# Altium footprint library BGA_Sq_100P.PcbLib: 114 footprints (part 26 of 31)
Each footprint in its own frame and in the unit in brackets; x right, y up, seen from the top. Pads: shape width x height; smd on the part's side, far side on the other; paste and mask are expansions set on the pad; w line width, h text height; cw(c..) or ccw(c..) is an arc to the next point about the centre after c.
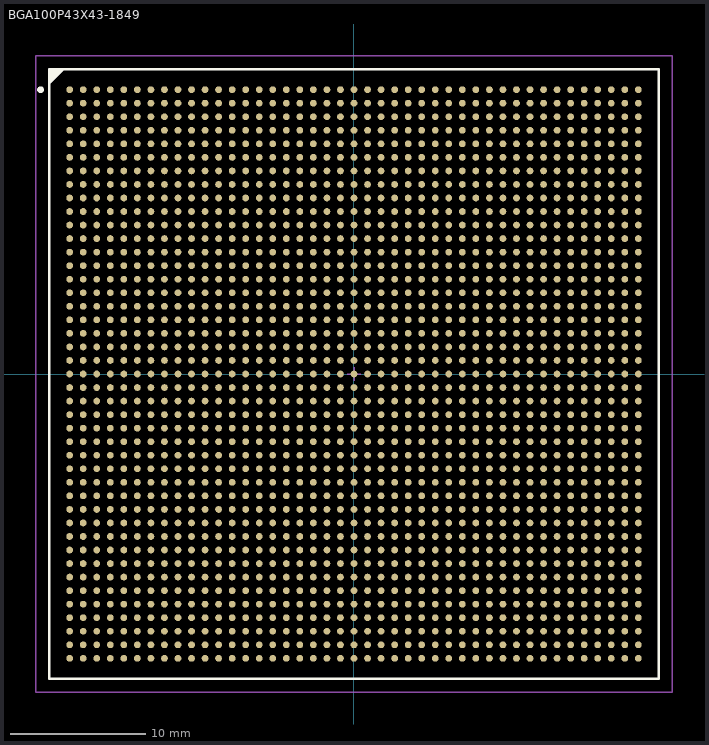
[diagram p25: the footprint, top view; thin cyan lines are the x and y axes]

## BGA100P43X43-1849 [mm] "BGA, 1849-Leads, Body 45x45mm, Pitch 1mm"
height 3.5
pads (1849):
  round 0.5 smd: A1(-21,21) A2(-20,21) A3(-19,21) A4(-18,21) A5(-17,21) A6(-16,21) A7(-15,21) A8(-14,21) A9(-13,21) A10(-12,21) A11(-11,21) A12(-10,21) A13(-9,21) A14(-8,21) A15(-7,21) A16(-6,21) A17(-5,21) A18(-4,21) A19(-3,21) A20(-2,21) A21(-1,21) A22(0,21) A23(1,21) A24(2,21) A25(3,21) A26(4,21) A27(5,21) A28(6,21) A29(7,21) A30(8,21) A31(9,21) A32(10,21) A33(11,21) A34(12,21) A35(13,21) A36(14,21) A37(15,21) A38(16,21) A39(17,21) A40(18,21) A41(19,21) A42(20,21) A43(21,21) AA1(-21,1) AA2(-20,1) AA3(-19,1) AA4(-18,1) AA5(-17,1) AA6(-16,1) AA7(-15,1) AA8(-14,1) AA9(-13,1) AA10(-12,1) AA11(-11,1) AA12(-10,1) AA13(-9,1) AA14(-8,1) AA15(-7,1) AA16(-6,1) AA17(-5,1) AA18(-4,1) AA19(-3,1) AA20(-2,1) AA21(-1,1) AA22(0,1) AA23(1,1) AA24(2,1) AA25(3,1) AA26(4,1) AA27(5,1) AA28(6,1) AA29(7,1) AA30(8,1) AA31(9,1) AA32(10,1) AA33(11,1) AA34(12,1) AA35(13,1) AA36(14,1) AA37(15,1) AA38(16,1) AA39(17,1) AA40(18,1) AA41(19,1) AA42(20,1) AA43(21,1) AB1(-21,0) AB2(-20,0) AB3(-19,0) AB4(-18,0) AB5(-17,0) AB6(-16,0) AB7(-15,0) AB8(-14,0) AB9(-13,0) AB10(-12,0) AB11(-11,0) AB12(-10,0) AB13(-9,0) AB14(-8,0) AB15(-7,0) AB16(-6,0) AB17(-5,0) AB18(-4,0) AB19(-3,0) AB20(-2,0) AB21(-1,0) AB22(0,0) AB23(1,0) AB24(2,0) AB25(3,0) AB26(4,0) AB27(5,0) AB28(6,0) AB29(7,0) AB30(8,0) AB31(9,0) AB32(10,0) AB33(11,0) AB34(12,0) AB35(13,0) AB36(14,0) AB37(15,0) AB38(16,0) AB39(17,0) AB40(18,0) AB41(19,0) AB42(20,0) AB43(21,0) AC1(-21,-1) AC2(-20,-1) AC3(-19,-1) AC4(-18,-1) AC5(-17,-1) AC6(-16,-1) AC7(-15,-1) AC8(-14,-1) AC9(-13,-1) AC10(-12,-1) AC11(-11,-1) AC12(-10,-1) AC13(-9,-1) AC14(-8,-1) AC15(-7,-1) AC16(-6,-1) AC17(-5,-1) AC18(-4,-1) AC19(-3,-1) AC20(-2,-1) AC21(-1,-1) AC22(0,-1) AC23(1,-1) AC24(2,-1) AC25(3,-1) AC26(4,-1) AC27(5,-1) AC28(6,-1) AC29(7,-1) AC30(8,-1) AC31(9,-1) AC32(10,-1) AC33(11,-1) AC34(12,-1) AC35(13,-1) AC36(14,-1) AC37(15,-1) AC38(16,-1) AC39(17,-1) AC40(18,-1) AC41(19,-1) AC42(20,-1) AC43(21,-1) AD1(-21,-2) AD2(-20,-2) AD3(-19,-2) AD4(-18,-2) AD5(-17,-2) AD6(-16,-2) AD7(-15,-2) AD8(-14,-2) AD9(-13,-2) AD10(-12,-2) AD11(-11,-2) AD12(-10,-2) AD13(-9,-2) AD14(-8,-2) AD15(-7,-2) AD16(-6,-2) AD17(-5,-2) AD18(-4,-2) AD19(-3,-2) AD20(-2,-2) AD21(-1,-2) AD22(0,-2) AD23(1,-2) AD24(2,-2) AD25(3,-2) AD26(4,-2) AD27(5,-2) AD28(6,-2) AD29(7,-2) AD30(8,-2) AD31(9,-2) AD32(10,-2) AD33(11,-2) AD34(12,-2) AD35(13,-2) AD36(14,-2) AD37(15,-2) AD38(16,-2) AD39(17,-2) AD40(18,-2) AD41(19,-2) AD42(20,-2) AD43(21,-2) AE1(-21,-3) AE2(-20,-3) AE3(-19,-3) AE4(-18,-3) AE5(-17,-3) AE6(-16,-3) AE7(-15,-3) AE8(-14,-3) AE9(-13,-3) AE10(-12,-3) AE11(-11,-3) AE12(-10,-3) AE13(-9,-3) AE14(-8,-3) AE15(-7,-3) AE16(-6,-3) AE17(-5,-3) AE18(-4,-3) AE19(-3,-3) AE20(-2,-3) AE21(-1,-3) AE22(0,-3) AE23(1,-3) AE24(2,-3) AE25(3,-3) AE26(4,-3) AE27(5,-3) AE28(6,-3) AE29(7,-3) AE30(8,-3) AE31(9,-3) AE32(10,-3) AE33(11,-3) AE34(12,-3) AE35(13,-3) AE36(14,-3) AE37(15,-3) AE38(16,-3) AE39(17,-3) AE40(18,-3) AE41(19,-3) AE42(20,-3) AE43(21,-3) AF1(-21,-4) AF2(-20,-4) AF3(-19,-4) AF4(-18,-4) AF5(-17,-4) AF6(-16,-4) AF7(-15,-4) AF8(-14,-4) AF9(-13,-4) AF10(-12,-4) AF11(-11,-4) AF12(-10,-4) AF13(-9,-4) AF14(-8,-4) AF15(-7,-4) AF16(-6,-4) AF17(-5,-4) AF18(-4,-4) AF19(-3,-4) AF20(-2,-4) AF21(-1,-4) AF22(0,-4) AF23(1,-4) AF24(2,-4) AF25(3,-4) AF26(4,-4) AF27(5,-4) AF28(6,-4) AF29(7,-4) AF30(8,-4) AF31(9,-4) AF32(10,-4) AF33(11,-4) AF34(12,-4) AF35(13,-4) AF36(14,-4) AF37(15,-4) AF38(16,-4) AF39(17,-4) AF40(18,-4) AF41(19,-4) AF42(20,-4) AF43(21,-4) AG1(-21,-5) AG2(-20,-5) AG3(-19,-5) AG4(-18,-5) AG5(-17,-5) AG6(-16,-5) AG7(-15,-5) AG8(-14,-5) AG9(-13,-5) AG10(-12,-5) AG11(-11,-5) AG12(-10,-5) AG13(-9,-5) AG14(-8,-5) AG15(-7,-5) AG16(-6,-5) AG17(-5,-5) AG18(-4,-5) AG19(-3,-5) AG20(-2,-5) AG21(-1,-5) AG22(0,-5) AG23(1,-5) AG24(2,-5) AG25(3,-5) AG26(4,-5) AG27(5,-5) AG28(6,-5) AG29(7,-5) AG30(8,-5) AG31(9,-5) AG32(10,-5) AG33(11,-5) AG34(12,-5) AG35(13,-5) AG36(14,-5) AG37(15,-5) AG38(16,-5) AG39(17,-5) AG40(18,-5) AG41(19,-5) AG42(20,-5) AG43(21,-5) AH1(-21,-6) AH2(-20,-6) AH3(-19,-6) AH4(-18,-6) AH5(-17,-6) AH6(-16,-6) AH7(-15,-6) AH8(-14,-6) AH9(-13,-6) AH10(-12,-6) AH11(-11,-6) AH12(-10,-6) AH13(-9,-6) AH14(-8,-6) AH15(-7,-6) AH16(-6,-6) AH17(-5,-6) AH18(-4,-6) AH19(-3,-6) AH20(-2,-6) AH21(-1,-6) AH22(0,-6) AH23(1,-6) AH24(2,-6) AH25(3,-6) AH26(4,-6) AH27(5,-6) AH28(6,-6) AH29(7,-6) AH30(8,-6) AH31(9,-6) AH32(10,-6) AH33(11,-6) AH34(12,-6) AH35(13,-6) AH36(14,-6) AH37(15,-6) AH38(16,-6) AH39(17,-6) AH40(18,-6) AH41(19,-6) AH42(20,-6) AH43(21,-6) AJ1(-21,-7) AJ2(-20,-7) AJ3(-19,-7) AJ4(-18,-7) AJ5(-17,-7) AJ6(-16,-7) AJ7(-15,-7) AJ8(-14,-7) AJ9(-13,-7) AJ10(-12,-7) AJ11(-11,-7) AJ12(-10,-7) AJ13(-9,-7) AJ14(-8,-7) AJ15(-7,-7) AJ16(-6,-7) AJ17(-5,-7) AJ18(-4,-7) AJ19(-3,-7) AJ20(-2,-7) AJ21(-1,-7) AJ22(0,-7) AJ23(1,-7) AJ24(2,-7) AJ25(3,-7) AJ26(4,-7) AJ27(5,-7) AJ28(6,-7) AJ29(7,-7) AJ30(8,-7) AJ31(9,-7) AJ32(10,-7) AJ33(11,-7) AJ34(12,-7) AJ35(13,-7) AJ36(14,-7) AJ37(15,-7) AJ38(16,-7) AJ39(17,-7) AJ40(18,-7) AJ41(19,-7) AJ42(20,-7) AJ43(21,-7) AK1(-21,-8) AK2(-20,-8) AK3(-19,-8) AK4(-18,-8) AK5(-17,-8) AK6(-16,-8) AK7(-15,-8) AK8(-14,-8) AK9(-13,-8) AK10(-12,-8) AK11(-11,-8) AK12(-10,-8) AK13(-9,-8) AK14(-8,-8) AK15(-7,-8) AK16(-6,-8) AK17(-5,-8) AK18(-4,-8) AK19(-3,-8) AK20(-2,-8) AK21(-1,-8) AK22(0,-8) AK23(1,-8) AK24(2,-8) AK25(3,-8) AK26(4,-8) AK27(5,-8) AK28(6,-8) AK29(7,-8) AK30(8,-8) AK31(9,-8) AK32(10,-8) AK33(11,-8) AK34(12,-8) AK35(13,-8) AK36(14,-8) AK37(15,-8) AK38(16,-8) AK39(17,-8) AK40(18,-8) AK41(19,-8) AK42(20,-8) AK43(21,-8) AL1(-21,-9) AL2(-20,-9) AL3(-19,-9) AL4(-18,-9) AL5(-17,-9) AL6(-16,-9) AL7(-15,-9) AL8(-14,-9) AL9(-13,-9) AL10(-12,-9) AL11(-11,-9) AL12(-10,-9) AL13(-9,-9) AL14(-8,-9) AL15(-7,-9) AL16(-6,-9) AL17(-5,-9) AL18(-4,-9) AL19(-3,-9) AL20(-2,-9) AL21(-1,-9) AL22(0,-9) AL23(1,-9) AL24(2,-9) AL25(3,-9) AL26(4,-9) AL27(5,-9) AL28(6,-9) AL29(7,-9) AL30(8,-9) AL31(9,-9) AL32(10,-9) AL33(11,-9) AL34(12,-9) AL35(13,-9) AL36(14,-9) AL37(15,-9) AL38(16,-9) AL39(17,-9) AL40(18,-9) AL41(19,-9) AL42(20,-9) AL43(21,-9) AM1(-21,-10) AM2(-20,-10) AM3(-19,-10) AM4(-18,-10) AM5(-17,-10) AM6(-16,-10) AM7(-15,-10) AM8(-14,-10) AM9(-13,-10) AM10(-12,-10) AM11(-11,-10) AM12(-10,-10) AM13(-9,-10) AM14(-8,-10) AM15(-7,-10) AM16(-6,-10) AM17(-5,-10) AM18(-4,-10) AM19(-3,-10) AM20(-2,-10) AM21(-1,-10) AM22(0,-10) AM23(1,-10) AM24(2,-10) AM25(3,-10) AM26(4,-10) AM27(5,-10) AM28(6,-10) AM29(7,-10) AM30(8,-10) AM31(9,-10) AM32(10,-10) AM33(11,-10) AM34(12,-10) AM35(13,-10) AM36(14,-10) AM37(15,-10) AM38(16,-10) AM39(17,-10) AM40(18,-10) AM41(19,-10) AM42(20,-10) AM43(21,-10) AN1(-21,-11) AN2(-20,-11) AN3(-19,-11) AN4(-18,-11) AN5(-17,-11) AN6(-16,-11) AN7(-15,-11) AN8(-14,-11) AN9(-13,-11) AN10(-12,-11) AN11(-11,-11) AN12(-10,-11) AN13(-9,-11) AN14(-8,-11) AN15(-7,-11) AN16(-6,-11) AN17(-5,-11) AN18(-4,-11) AN19(-3,-11) AN20(-2,-11) AN21(-1,-11) AN22(0,-11) AN23(1,-11) AN24(2,-11) AN25(3,-11) AN26(4,-11) AN27(5,-11) AN28(6,-11) AN29(7,-11) AN30(8,-11) AN31(9,-11) AN32(10,-11) AN33(11,-11) AN34(12,-11) AN35(13,-11) AN36(14,-11) AN37(15,-11) AN38(16,-11) AN39(17,-11) AN40(18,-11) AN41(19,-11) AN42(20,-11) AN43(21,-11) AP1(-21,-12) AP2(-20,-12) AP3(-19,-12) AP4(-18,-12) AP5(-17,-12) AP6(-16,-12) AP7(-15,-12) AP8(-14,-12) AP9(-13,-12) AP10(-12,-12) AP11(-11,-12) AP12(-10,-12) AP13(-9,-12) AP14(-8,-12) AP15(-7,-12) AP16(-6,-12) AP17(-5,-12) AP18(-4,-12) AP19(-3,-12) AP20(-2,-12) AP21(-1,-12) AP22(0,-12) AP23(1,-12) AP24(2,-12) AP25(3,-12) AP26(4,-12) AP27(5,-12) AP28(6,-12) AP29(7,-12) AP30(8,-12) AP31(9,-12) AP32(10,-12) AP33(11,-12) AP34(12,-12) AP35(13,-12) AP36(14,-12) AP37(15,-12) AP38(16,-12) AP39(17,-12) AP40(18,-12) AP41(19,-12) AP42(20,-12) AP43(21,-12) AR1(-21,-13) AR2(-20,-13) AR3(-19,-13) AR4(-18,-13) AR5(-17,-13) AR6(-16,-13) AR7(-15,-13) AR8(-14,-13) AR9(-13,-13) AR10(-12,-13) AR11(-11,-13) AR12(-10,-13) AR13(-9,-13) AR14(-8,-13) AR15(-7,-13) AR16(-6,-13) AR17(-5,-13) AR18(-4,-13) AR19(-3,-13) AR20(-2,-13) AR21(-1,-13) AR22(0,-13) AR23(1,-13) AR24(2,-13) AR25(3,-13) AR26(4,-13) AR27(5,-13) AR28(6,-13) AR29(7,-13) AR30(8,-13) AR31(9,-13) AR32(10,-13) AR33(11,-13) AR34(12,-13) AR35(13,-13) AR36(14,-13) AR37(15,-13) AR38(16,-13) AR39(17,-13) AR40(18,-13) AR41(19,-13) AR42(20,-13) AR43(21,-13) AT1(-21,-14) AT2(-20,-14) AT3(-19,-14) AT4(-18,-14) AT5(-17,-14) AT6(-16,-14) AT7(-15,-14) AT8(-14,-14) AT9(-13,-14) AT10(-12,-14) AT11(-11,-14) AT12(-10,-14) AT13(-9,-14) AT14(-8,-14) AT15(-7,-14) AT16(-6,-14) AT17(-5,-14) AT18(-4,-14) AT19(-3,-14) AT20(-2,-14) AT21(-1,-14) AT22(0,-14) AT23(1,-14) AT24(2,-14) AT25(3,-14) AT26(4,-14) AT27(5,-14) AT28(6,-14) AT29(7,-14) AT30(8,-14) AT31(9,-14) AT32(10,-14) AT33(11,-14) AT34(12,-14) AT35(13,-14) AT36(14,-14) AT37(15,-14) AT38(16,-14) AT39(17,-14) AT40(18,-14) AT41(19,-14) AT42(20,-14) AT43(21,-14) AU1(-21,-15) AU2(-20,-15) AU3(-19,-15) AU4(-18,-15) AU5(-17,-15) AU6(-16,-15) AU7(-15,-15) AU8(-14,-15) AU9(-13,-15) AU10(-12,-15) AU11(-11,-15) AU12(-10,-15) AU13(-9,-15) AU14(-8,-15) AU15(-7,-15) AU16(-6,-15) AU17(-5,-15) AU18(-4,-15) AU19(-3,-15) AU20(-2,-15) AU21(-1,-15) AU22(0,-15) AU23(1,-15) AU24(2,-15) AU25(3,-15) AU26(4,-15) AU27(5,-15) AU28(6,-15) AU29(7,-15) AU30(8,-15) AU31(9,-15) AU32(10,-15) AU33(11,-15) AU34(12,-15) AU35(13,-15) AU36(14,-15) AU37(15,-15) AU38(16,-15) AU39(17,-15) AU40(18,-15) AU41(19,-15) AU42(20,-15) AU43(21,-15) AV1(-21,-16) AV2(-20,-16) AV3(-19,-16) AV4(-18,-16) AV5(-17,-16) AV6(-16,-16) AV7(-15,-16) AV8(-14,-16) AV9(-13,-16) AV10(-12,-16) AV11(-11,-16) AV12(-10,-16) AV13(-9,-16) AV14(-8,-16) AV15(-7,-16) AV16(-6,-16) AV17(-5,-16) AV18(-4,-16) AV19(-3,-16) AV20(-2,-16) AV21(-1,-16) AV22(0,-16) AV23(1,-16) AV24(2,-16) AV25(3,-16) AV26(4,-16) AV27(5,-16) AV28(6,-16) AV29(7,-16) AV30(8,-16) AV31(9,-16) AV32(10,-16) AV33(11,-16) AV34(12,-16) AV35(13,-16) AV36(14,-16) AV37(15,-16) AV38(16,-16) AV39(17,-16) AV40(18,-16) AV41(19,-16) AV42(20,-16) AV43(21,-16) AW1(-21,-17) AW2(-20,-17) AW3(-19,-17) AW4(-18,-17) AW5(-17,-17) AW6(-16,-17) AW7(-15,-17) AW8(-14,-17) AW9(-13,-17) AW10(-12,-17) AW11(-11,-17) AW12(-10,-17) AW13(-9,-17) AW14(-8,-17) AW15(-7,-17) AW16(-6,-17) AW17(-5,-17) AW18(-4,-17) AW19(-3,-17) AW20(-2,-17) AW21(-1,-17) AW22(0,-17) AW23(1,-17) AW24(2,-17) AW25(3,-17) AW26(4,-17) AW27(5,-17) AW28(6,-17) AW29(7,-17) AW30(8,-17) AW31(9,-17) AW32(10,-17) AW33(11,-17) AW34(12,-17) AW35(13,-17) AW36(14,-17) AW37(15,-17) AW38(16,-17) AW39(17,-17) AW40(18,-17) AW41(19,-17) AW42(20,-17) AW43(21,-17) AY1(-21,-18) AY2(-20,-18) AY3(-19,-18) AY4(-18,-18) AY5(-17,-18) AY6(-16,-18) AY7(-15,-18) AY8(-14,-18) AY9(-13,-18) AY10(-12,-18) AY11(-11,-18) AY12(-10,-18) AY13(-9,-18) AY14(-8,-18) AY15(-7,-18) AY16(-6,-18) AY17(-5,-18) AY18(-4,-18) AY19(-3,-18) AY20(-2,-18) AY21(-1,-18) AY22(0,-18) AY23(1,-18) AY24(2,-18) AY25(3,-18) AY26(4,-18) AY27(5,-18) AY28(6,-18) AY29(7,-18) AY30(8,-18) AY31(9,-18) AY32(10,-18) AY33(11,-18) AY34(12,-18) AY35(13,-18) AY36(14,-18) AY37(15,-18) AY38(16,-18) AY39(17,-18) AY40(18,-18) AY41(19,-18) AY42(20,-18) AY43(21,-18) B1(-21,20) B2(-20,20) B3(-19,20) B4(-18,20) B5(-17,20) B6(-16,20) B7(-15,20) B8(-14,20) B9(-13,20) B10(-12,20) B11(-11,20) B12(-10,20) B13(-9,20) B14(-8,20) B15(-7,20) B16(-6,20) B17(-5,20) B18(-4,20) B19(-3,20) B20(-2,20) B21(-1,20) B22(0,20) B23(1,20) B24(2,20) B25(3,20) B26(4,20) B27(5,20) B28(6,20) B29(7,20) B30(8,20) B31(9,20) B32(10,20) B33(11,20) B34(12,20) B35(13,20) B36(14,20) B37(15,20) B38(16,20) B39(17,20) B40(18,20) B41(19,20) B42(20,20) B43(21,20) BA1(-21,-19) BA2(-20,-19) BA3(-19,-19) BA4(-18,-19) BA5(-17,-19) BA6(-16,-19) BA7(-15,-19) BA8(-14,-19) BA9(-13,-19) BA10(-12,-19) BA11(-11,-19) BA12(-10,-19) BA13(-9,-19) BA14(-8,-19) BA15(-7,-19) BA16(-6,-19) BA17(-5,-19) BA18(-4,-19) BA19(-3,-19) BA20(-2,-19) BA21(-1,-19) BA22(0,-19) BA23(1,-19) BA24(2,-19) BA25(3,-19) BA26(4,-19) BA27(5,-19) BA28(6,-19) BA29(7,-19) BA30(8,-19) BA31(9,-19) BA32(10,-19) BA33(11,-19) BA34(12,-19) BA35(13,-19) BA36(14,-19) BA37(15,-19) BA38(16,-19) BA39(17,-19) BA40(18,-19) BA41(19,-19) BA42(20,-19) BA43(21,-19) BB1(-21,-20) BB2(-20,-20) BB3(-19,-20) BB4(-18,-20) BB5(-17,-20) BB6(-16,-20) BB7(-15,-20) BB8(-14,-20) BB9(-13,-20) BB10(-12,-20) BB11(-11,-20) BB12(-10,-20) BB13(-9,-20) BB14(-8,-20) BB15(-7,-20) BB16(-6,-20) BB17(-5,-20) BB18(-4,-20) BB19(-3,-20) BB20(-2,-20) BB21(-1,-20) BB22(0,-20) BB23(1,-20) BB24(2,-20) BB25(3,-20) BB26(4,-20) BB27(5,-20) BB28(6,-20) BB29(7,-20) BB30(8,-20) BB31(9,-20) BB32(10,-20) BB33(11,-20) BB34(12,-20) BB35(13,-20) BB36(14,-20) BB37(15,-20) BB38(16,-20) BB39(17,-20) BB40(18,-20) BB41(19,-20) BB42(20,-20) BB43(21,-20) BC1(-21,-21) BC2(-20,-21) BC3(-19,-21) BC4(-18,-21) BC5(-17,-21) BC6(-16,-21) BC7(-15,-21) BC8(-14,-21) BC9(-13,-21) BC10(-12,-21) BC11(-11,-21) BC12(-10,-21) BC13(-9,-21) BC14(-8,-21) BC15(-7,-21) BC16(-6,-21) BC17(-5,-21) BC18(-4,-21) BC19(-3,-21) BC20(-2,-21) BC21(-1,-21) BC22(0,-21) BC23(1,-21) BC24(2,-21) BC25(3,-21) BC26(4,-21) BC27(5,-21) BC28(6,-21) BC29(7,-21) BC30(8,-21) BC31(9,-21) BC32(10,-21) BC33(11,-21) BC34(12,-21) BC35(13,-21) BC36(14,-21) BC37(15,-21) BC38(16,-21) BC39(17,-21) BC40(18,-21) BC41(19,-21) BC42(20,-21) BC43(21,-21) C1(-21,19) C2(-20,19) C3(-19,19) C4(-18,19) C5(-17,19) C6(-16,19) C7(-15,19) C8(-14,19) C9(-13,19) C10(-12,19) C11(-11,19) C12(-10,19) C13(-9,19) C14(-8,19) C15(-7,19) C16(-6,19) C17(-5,19) C18(-4,19) C19(-3,19) C20(-2,19) C21(-1,19) C22(0,19) C23(1,19) C24(2,19) C25(3,19) C26(4,19) C27(5,19) C28(6,19) C29(7,19) C30(8,19) C31(9,19) C32(10,19) C33(11,19) C34(12,19) C35(13,19) C36(14,19) C37(15,19) C38(16,19) C39(17,19) C40(18,19) C41(19,19) C42(20,19) C43(21,19) D1(-21,18) D2(-20,18) D3(-19,18) D4(-18,18) D5(-17,18) D6(-16,18) D7(-15,18) D8(-14,18) D9(-13,18) D10(-12,18) D11(-11,18) D12(-10,18) D13(-9,18) D14(-8,18) D15(-7,18) D16(-6,18) D17(-5,18) D18(-4,18) D19(-3,18) D20(-2,18) D21(-1,18) D22(0,18) D23(1,18) D24(2,18) D25(3,18) D26(4,18) D27(5,18) D28(6,18) D29(7,18) D30(8,18) D31(9,18) D32(10,18) D33(11,18) D34(12,18) D35(13,18) D36(14,18) D37(15,18) D38(16,18) D39(17,18) D40(18,18) D41(19,18) D42(20,18) D43(21,18) E1(-21,17) E2(-20,17) E3(-19,17) E4(-18,17) E5(-17,17) E6(-16,17) E7(-15,17) E8(-14,17) E9(-13,17) E10(-12,17) E11(-11,17) E12(-10,17) E13(-9,17) E14(-8,17) E15(-7,17) E16(-6,17) E17(-5,17) E18(-4,17) E19(-3,17) E20(-2,17) E21(-1,17) E22(0,17) E23(1,17) E24(2,17) E25(3,17) E26(4,17) E27(5,17) E28(6,17) E29(7,17) E30(8,17) E31(9,17) E32(10,17) E33(11,17) E34(12,17) E35(13,17) E36(14,17) E37(15,17) E38(16,17) E39(17,17) E40(18,17) E41(19,17) E42(20,17) E43(21,17) F1(-21,16) F2(-20,16) F3(-19,16) F4(-18,16) F5(-17,16) F6(-16,16) F7(-15,16) F8(-14,16) F9(-13,16) F10(-12,16) F11(-11,16) F12(-10,16) F13(-9,16) F14(-8,16) F15(-7,16) F16(-6,16) F17(-5,16) F18(-4,16) F19(-3,16) F20(-2,16) F21(-1,16) F22(0,16) F23(1,16) F24(2,16) F25(3,16) F26(4,16) F27(5,16) F28(6,16) F29(7,16) F30(8,16) F31(9,16) F32(10,16) F33(11,16) F34(12,16) F35(13,16) F36(14,16) F37(15,16) F38(16,16) F39(17,16) F40(18,16) F41(19,16) F42(20,16) F43(21,16) G1(-21,15) G2(-20,15) G3(-19,15) G4(-18,15) G5(-17,15) G6(-16,15) G7(-15,15) G8(-14,15) G9(-13,15) G10(-12,15) G11(-11,15) G12(-10,15) G13(-9,15) G14(-8,15) G15(-7,15) G16(-6,15) G17(-5,15) G18(-4,15) G19(-3,15) G20(-2,15) G21(-1,15) G22(0,15) G23(1,15) G24(2,15) G25(3,15) G26(4,15) G27(5,15) G28(6,15) G29(7,15) G30(8,15) G31(9,15) G32(10,15) G33(11,15) G34(12,15) G35(13,15) G36(14,15) G37(15,15) G38(16,15) G39(17,15) G40(18,15) G41(19,15) G42(20,15) G43(21,15) H1(-21,14) H2(-20,14) H3(-19,14) H4(-18,14) H5(-17,14) H6(-16,14) H7(-15,14) H8(-14,14) H9(-13,14) H10(-12,14) H11(-11,14) H12(-10,14) H13(-9,14) H14(-8,14) H15(-7,14) H16(-6,14) H17(-5,14) H18(-4,14) H19(-3,14) H20(-2,14) H21(-1,14) H22(0,14) H23(1,14) H24(2,14) H25(3,14) H26(4,14) H27(5,14) H28(6,14) H29(7,14) H30(8,14) H31(9,14) H32(10,14) H33(11,14) H34(12,14) H35(13,14) H36(14,14) H37(15,14) H38(16,14) H39(17,14) H40(18,14) H41(19,14) H42(20,14) H43(21,14) J1(-21,13) J2(-20,13) J3(-19,13) J4(-18,13) J5(-17,13) J6(-16,13) J7(-15,13) J8(-14,13) J9(-13,13) J10(-12,13) J11(-11,13) J12(-10,13) J13(-9,13) J14(-8,13) J15(-7,13) J16(-6,13) J17(-5,13) J18(-4,13) J19(-3,13) J20(-2,13) J21(-1,13) J22(0,13) J23(1,13) J24(2,13) J25(3,13) J26(4,13) J27(5,13) J28(6,13) J29(7,13) J30(8,13) J31(9,13) J32(10,13) J33(11,13) J34(12,13) J35(13,13) J36(14,13) J37(15,13) J38(16,13) J39(17,13) J40(18,13) J41(19,13) J42(20,13) J43(21,13) K1(-21,12) K2(-20,12) K3(-19,12) K4(-18,12) K5(-17,12) K6(-16,12) K7(-15,12) K8(-14,12) K9(-13,12) K10(-12,12) K11(-11,12) K12(-10,12) K13(-9,12) K14(-8,12) K15(-7,12) K16(-6,12) K17(-5,12) K18(-4,12) K19(-3,12) K20(-2,12) K21(-1,12) K22(0,12) K23(1,12) K24(2,12) K25(3,12) K26(4,12) K27(5,12) K28(6,12) K29(7,12) K30(8,12) K31(9,12) K32(10,12) K33(11,12) K34(12,12) K35(13,12) K36(14,12) K37(15,12) K38(16,12) K39(17,12) K40(18,12) K41(19,12) K42(20,12) K43(21,12) L1(-21,11) L2(-20,11) L3(-19,11) L4(-18,11) L5(-17,11) L6(-16,11) L7(-15,11) L8(-14,11) L9(-13,11) L10(-12,11) L11(-11,11) L12(-10,11) L13(-9,11) L14(-8,11) L15(-7,11) L16(-6,11) L17(-5,11) L18(-4,11) L19(-3,11) L20(-2,11) L21(-1,11) L22(0,11) L23(1,11) L24(2,11) L25(3,11) L26(4,11) L27(5,11) L28(6,11) L29(7,11) L30(8,11) L31(9,11) L32(10,11) L33(11,11) L34(12,11) L35(13,11) L36(14,11) L37(15,11) L38(16,11) L39(17,11) L40(18,11) L41(19,11) L42(20,11) L43(21,11) M1(-21,10) M2(-20,10) M3(-19,10) M4(-18,10) M5(-17,10) M6(-16,10) M7(-15,10) M8(-14,10) M9(-13,10) M10(-12,10) M11(-11,10) M12(-10,10) M13(-9,10) M14(-8,10) M15(-7,10) M16(-6,10) M17(-5,10) M18(-4,10) M19(-3,10) M20(-2,10) M21(-1,10) M22(0,10) M23(1,10) M24(2,10) M25(3,10) M26(4,10) M27(5,10) M28(6,10) M29(7,10) M30(8,10) M31(9,10) M32(10,10) M33(11,10) M34(12,10) M35(13,10) M36(14,10) M37(15,10) M38(16,10) M39(17,10) M40(18,10) M41(19,10) M42(20,10) M43(21,10) N1(-21,9) N2(-20,9) N3(-19,9) N4(-18,9) N5(-17,9) N6(-16,9) N7(-15,9) N8(-14,9) N9(-13,9) N10(-12,9) N11(-11,9) N12(-10,9) N13(-9,9) N14(-8,9) N15(-7,9) N16(-6,9) N17(-5,9) N18(-4,9) N19(-3,9) N20(-2,9) N21(-1,9) N22(0,9) N23(1,9) N24(2,9) N25(3,9) N26(4,9) N27(5,9) N28(6,9) N29(7,9) N30(8,9) N31(9,9) N32(10,9) N33(11,9) N34(12,9) N35(13,9) N36(14,9) N37(15,9) N38(16,9) N39(17,9) N40(18,9) N41(19,9) N42(20,9) N43(21,9) P1(-21,8) P2(-20,8) P3(-19,8) P4(-18,8) P5(-17,8) P6(-16,8) P7(-15,8) P8(-14,8) P9(-13,8) P10(-12,8) P11(-11,8) P12(-10,8) P13(-9,8) P14(-8,8) P15(-7,8) P16(-6,8) P17(-5,8) P18(-4,8) P19(-3,8) P20(-2,8) P21(-1,8) P22(0,8) P23(1,8) P24(2,8) P25(3,8) P26(4,8) P27(5,8) P28(6,8) P29(7,8) P30(8,8) P31(9,8) P32(10,8) P33(11,8) P34(12,8) P35(13,8) P36(14,8) P37(15,8) P38(16,8) P39(17,8) P40(18,8) P41(19,8) P42(20,8) P43(21,8) R1(-21,7) R2(-20,7) R3(-19,7) R4(-18,7) R5(-17,7) R6(-16,7) R7(-15,7) R8(-14,7) R9(-13,7) R10(-12,7) R11(-11,7) R12(-10,7) R13(-9,7) R14(-8,7) R15(-7,7) R16(-6,7) R17(-5,7) R18(-4,7) R19(-3,7) R20(-2,7) R21(-1,7) R22(0,7) R23(1,7) R24(2,7) R25(3,7) R26(4,7) R27(5,7) R28(6,7) R29(7,7) R30(8,7) R31(9,7) R32(10,7) R33(11,7) R34(12,7) R35(13,7) R36(14,7) R37(15,7) R38(16,7) R39(17,7) R40(18,7) R41(19,7) R42(20,7) R43(21,7) T1(-21,6) T2(-20,6) T3(-19,6) T4(-18,6) T5(-17,6) T6(-16,6) T7(-15,6) T8(-14,6) T9(-13,6) T10(-12,6) T11(-11,6) T12(-10,6) T13(-9,6) T14(-8,6) T15(-7,6) T16(-6,6) T17(-5,6) T18(-4,6) T19(-3,6) T20(-2,6) T21(-1,6) T22(0,6) T23(1,6) T24(2,6) T25(3,6) T26(4,6) T27(5,6) T28(6,6) T29(7,6) T30(8,6) T31(9,6) T32(10,6) T33(11,6) T34(12,6) T35(13,6) T36(14,6) T37(15,6) T38(16,6) T39(17,6) T40(18,6) T41(19,6) T42(20,6) T43(21,6) U1(-21,5) U2(-20,5) U3(-19,5) U4(-18,5) U5(-17,5) U6(-16,5) U7(-15,5) U8(-14,5) U9(-13,5) U10(-12,5) U11(-11,5) U12(-10,5) U13(-9,5) U14(-8,5) U15(-7,5) U16(-6,5) U17(-5,5) U18(-4,5) U19(-3,5) U20(-2,5) U21(-1,5) U22(0,5) U23(1,5) U24(2,5) U25(3,5) U26(4,5) U27(5,5) U28(6,5) U29(7,5) U30(8,5) U31(9,5) U32(10,5) U33(11,5) U34(12,5) U35(13,5) U36(14,5) U37(15,5) U38(16,5) U39(17,5) U40(18,5) U41(19,5) U42(20,5) U43(21,5) V1(-21,4) V2(-20,4) V3(-19,4) V4(-18,4) V5(-17,4) V6(-16,4) V7(-15,4) V8(-14,4) V9(-13,4) V10(-12,4) V11(-11,4) V12(-10,4) V13(-9,4) V14(-8,4) V15(-7,4) V16(-6,4) V17(-5,4) V18(-4,4) V19(-3,4) V20(-2,4) V21(-1,4) V22(0,4) V23(1,4) V24(2,4) V25(3,4) V26(4,4) V27(5,4) V28(6,4) V29(7,4) V30(8,4) V31(9,4) V32(10,4) V33(11,4) V34(12,4) V35(13,4) V36(14,4) V37(15,4) V38(16,4) V39(17,4) V40(18,4) V41(19,4) V42(20,4) V43(21,4) W1(-21,3) W2(-20,3) W3(-19,3) W4(-18,3) W5(-17,3) W6(-16,3) W7(-15,3) W8(-14,3) W9(-13,3) W10(-12,3) W11(-11,3) W12(-10,3) W13(-9,3) W14(-8,3) W15(-7,3) W16(-6,3) W17(-5,3) W18(-4,3) W19(-3,3) W20(-2,3) W21(-1,3) W22(0,3) W23(1,3) W24(2,3) W25(3,3) W26(4,3) W27(5,3) W28(6,3) W29(7,3) W30(8,3) W31(9,3) W32(10,3) W33(11,3) W34(12,3) W35(13,3) W36(14,3) W37(15,3) W38(16,3) W39(17,3) W40(18,3) W41(19,3) W42(20,3) W43(21,3) Y1(-21,2) Y2(-20,2) Y3(-19,2) Y4(-18,2) Y5(-17,2) Y6(-16,2) Y7(-15,2) Y8(-14,2) Y9(-13,2) Y10(-12,2) Y11(-11,2) Y12(-10,2) Y13(-9,2) Y14(-8,2) Y15(-7,2) Y16(-6,2) Y17(-5,2) Y18(-4,2) Y19(-3,2) Y20(-2,2) Y21(-1,2) Y22(0,2) Y23(1,2) Y24(2,2) Y25(3,2) Y26(4,2) Y27(5,2) Y28(6,2) Y29(7,2) Y30(8,2) Y31(9,2) Y32(10,2) Y33(11,2) Y34(12,2) Y35(13,2) Y36(14,2) Y37(15,2) Y38(16,2) Y39(17,2) Y40(18,2) Y41(19,2) Y42(20,2) Y43(21,2)
Top Overlay:
  circle w0.25: c-23.15,21 r0.125
  region: -21.5,22.5 -22.5,21.5 -22.5,22.5
  lines w0.2: -22.5,21.5 -21.5,22.5 ; -22.5,-22.5 -22.5,22.5 22.5,22.5 22.5,-22.5 -22.5,-22.5
Mechanical 13:
  lines w0.1: -22.5,-22.5 -22.5,22.5 22.5,22.5 22.5,-22.5 -22.5,-22.5
Mechanical 15:
  lines w0.1: -0.5,0 0.5,0 ; 0,-0.5 0,0.5 ; -23.5,-23.5 -23.5,23.5 23.5,23.5 23.5,-23.5 -23.5,-23.5
3D body: height 0, standoff 0, extent -22.5,-22.5 22.5,22.5